# Altium integrated library TI Power Management Switching Regulator Charge Pump (Inductorless).IntLib: 239 symbols (part 2 of 14)
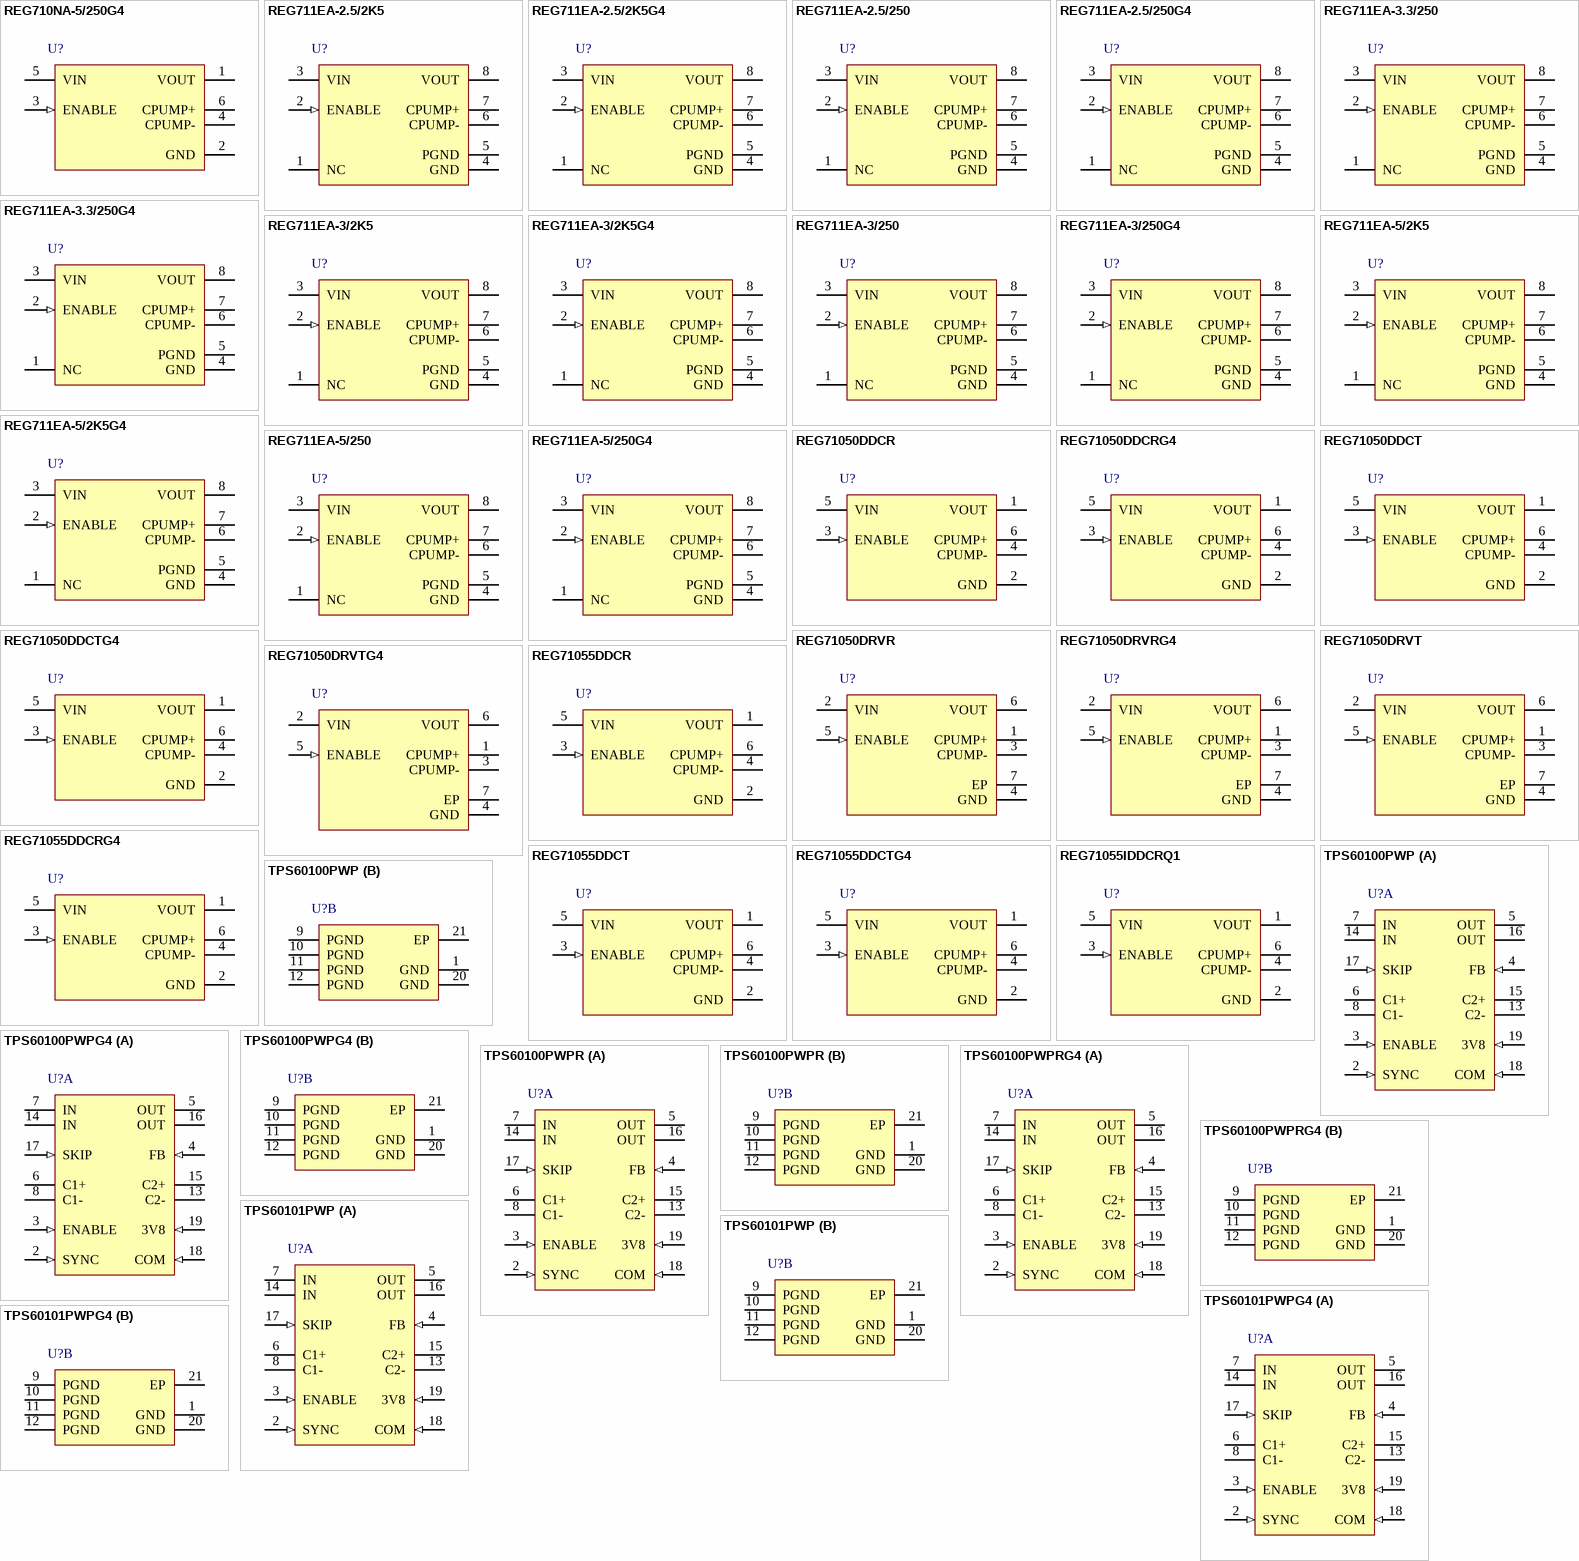
[diagram p8: symbols REG710NA-5/250G4 to TPS60101PWPG4]

## REG711EA-2.5/2K5
designator U?
2.5 V, Buck-Boost Charge Pump Regulator, 50 mA, 1.8 to 5.5 V Input, -55 to 125 degC, 8-pin SOP (DGK8), Green (RoHS & no Sb/Br); Manufacturer: Texas Instruments; PartNumber: REG711EA-2.5/2K5; Efficiency(Typ)(%): 90; Iout(Max)(A): 0.05; Iq(Typ)(mA): 0.06; Preset Vout(V): 2.5; Switching Frequency(Max)(kHz): 1000; Topology: Buck/Boost; Vin(Max)(V): 5.5; Vin(Min)(V): 1.8; Vout(Max)(V): 2.62; Vout(Min)(V): 2.38; DatasheetVersion: SBVS027A; PackageVersion: 4073329/E; PackageReference: DGK8; PackageDescription: 8-Pin Thin Small Outline Package 3 x 3 mm Body ,0.65 mm Pitch; Supplier 1: Digi-Key; Supplier Part Number 1: REG711EA2.52K5TR-ND; Supplier 2: Digi-Key; Supplier Part Number 2: REG711EA2.52K5CT-ND; Supplier 3: Digi-Key; Supplier Part Number 3: REG711EA2.52K5DKR-ND; Supplier 4: Newark; Supplier Part Number 4: 75C7606; Supplier 5: Mouser; Supplier Part Number 5: 595-REG711EA-2.5/2K5; Eco-Plan: Green (RoHS & no Sb/Br); Mounting Technology: Surface Mount; Code_JEDEC: MO-187; ComponentLink1Description: Manufacturer URL; ComponentLink1URL: http://www.ti.com/; ComponentLink2Description: Datasheet; ComponentLink2URL: http://www.ti.com/general/docs/lit/getliterature.tsp?genericPartNumber=REG711-25&fileType=pdf; ComponentLink3Description: Package Specification; ComponentLink3URL: http://www.ti.com/litv/pdf/mpds028d
footprint TI-DGK8_N (SOP, 8-Leads, Body 3x3mm, Pitch 0.65mm, IPC Medium Density)
footprint TI-DGK8_L (SOP, 8-Leads, Body 3x3mm, Pitch 0.65mm, IPC High Density)
footprint TI-DGK8_M (SOP, 8-Leads, Body 3x3mm, Pitch 0.65mm, IPC Low Density)
pins: 1 NC, 2 ENABLE (in), 3 VIN (power), 4 GND (power), 5 PGND (power), 6 CPUMP-, 7 CPUMP+, 8 VOUT (power)

## REG711EA-2.5/2K5G4
designator U?
2.5 V, Buck-Boost Charge Pump Regulator, 50 mA, 1.8 to 5.5 V Input, -55 to 125 degC, 8-pin SOP (DGK8), Green (RoHS & no Sb/Br); Manufacturer: Texas Instruments; PartNumber: REG711EA-2.5/2K5G4; Efficiency(Typ)(%): 90; Iout(Max)(A): 0.05; Iq(Typ)(mA): 0.06; Preset Vout(V): 2.5; Switching Frequency(Max)(kHz): 1000; Topology: Buck/Boost; Vin(Max)(V): 5.5; Vin(Min)(V): 1.8; Vout(Max)(V): 2.62; Vout(Min)(V): 2.38; DatasheetVersion: SBVS027A; PackageVersion: 4073329/E; PackageReference: DGK8; PackageDescription: 8-Pin Thin Small Outline Package 3 x 3 mm Body ,0.65 mm Pitch; Supplier 1: Digi-Key; Supplier Part Number 1: REG711EA-2.5/2K5G4-ND; Supplier 2: Newark; Supplier Part Number 2: 60M1723; Supplier 3: Mouser; Supplier Part Number 3: 595-REG711EA2.52K5G4; Eco-Plan: Green (RoHS & no Sb/Br); Mounting Technology: Surface Mount; Code_JEDEC: MO-187; ComponentLink1Description: Manufacturer URL; ComponentLink1URL: http://www.ti.com/; ComponentLink2Description: Datasheet; ComponentLink2URL: http://www.ti.com/general/docs/lit/getliterature.tsp?genericPartNumber=REG711-25&fileType=pdf; ComponentLink3Description: Package Specification; ComponentLink3URL: http://www.ti.com/litv/pdf/mpds028d
footprint TI-DGK8_N (SOP, 8-Leads, Body 3x3mm, Pitch 0.65mm, IPC Medium Density)
footprint TI-DGK8_L (SOP, 8-Leads, Body 3x3mm, Pitch 0.65mm, IPC High Density)
footprint TI-DGK8_M (SOP, 8-Leads, Body 3x3mm, Pitch 0.65mm, IPC Low Density)
pins: 1 NC, 2 ENABLE (in), 3 VIN (power), 4 GND (power), 5 PGND (power), 6 CPUMP-, 7 CPUMP+, 8 VOUT (power)

## REG711EA-2.5/250
designator U?
2.5 V, Buck-Boost Charge Pump Regulator, 50 mA, 1.8 to 5.5 V Input, -55 to 125 degC, 8-pin SOP (DGK8), Green (RoHS & no Sb/Br); Manufacturer: Texas Instruments; PartNumber: REG711EA-2.5/250; Efficiency(Typ)(%): 90; Iout(Max)(A): 0.05; Iq(Typ)(mA): 0.06; Preset Vout(V): 2.5; Switching Frequency(Max)(kHz): 1000; Topology: Buck/Boost; Vin(Max)(V): 5.5; Vin(Min)(V): 1.8; Vout(Max)(V): 2.62; Vout(Min)(V): 2.38; DatasheetVersion: SBVS027A; PackageVersion: 4073329/E; PackageReference: DGK8; PackageDescription: 8-Pin Thin Small Outline Package 3 x 3 mm Body ,0.65 mm Pitch; Supplier 1: Digi-Key; Supplier Part Number 1: 296-32219-2-ND; Supplier 2: Digi-Key; Supplier Part Number 2: 296-32219-1-ND; Supplier 3: Digi-Key; Supplier Part Number 3: 296-32219-6-ND; Supplier 4: Farnell; Supplier Part Number 4: 1471216RL; Supplier 5: Farnell; Supplier Part Number 5: 1471216; Supplier 6: Farnell; Supplier Part Number 6: 1535406; Supplier 7: Newark; Supplier Part Number 7: 75C7607; Supplier 8: Mouser; Supplier Part Number 8: 595-REG711EA-2.5/250; Eco-Plan: Green (RoHS & no Sb/Br); Mounting Technology: Surface Mount; Code_JEDEC: MO-187; ComponentLink1Description: Manufacturer URL; ComponentLink1URL: http://www.ti.com/; ComponentLink2Description: Datasheet; ComponentLink2URL: http://www.ti.com/general/docs/lit/getliterature.tsp?genericPartNumber=REG711-25&fileType=pdf; ComponentLink3Description: Package Specification; ComponentLink3URL: http://www.ti.com/litv/pdf/mpds028d
footprint TI-DGK8_N (SOP, 8-Leads, Body 3x3mm, Pitch 0.65mm, IPC Medium Density)
footprint TI-DGK8_L (SOP, 8-Leads, Body 3x3mm, Pitch 0.65mm, IPC High Density)
footprint TI-DGK8_M (SOP, 8-Leads, Body 3x3mm, Pitch 0.65mm, IPC Low Density)
pins: 1 NC, 2 ENABLE (in), 3 VIN (power), 4 GND (power), 5 PGND (power), 6 CPUMP-, 7 CPUMP+, 8 VOUT (power)

## REG711EA-2.5/250G4
designator U?
2.5 V, Buck-Boost Charge Pump Regulator, 50 mA, 1.8 to 5.5 V Input, -55 to 125 degC, 8-pin SOP (DGK8), Green (RoHS & no Sb/Br); Manufacturer: Texas Instruments; PartNumber: REG711EA-2.5/250G4; Efficiency(Typ)(%): 90; Iout(Max)(A): 0.05; Iq(Typ)(mA): 0.06; Preset Vout(V): 2.5; Switching Frequency(Max)(kHz): 1000; Topology: Buck/Boost; Vin(Max)(V): 5.5; Vin(Min)(V): 1.8; Vout(Max)(V): 2.62; Vout(Min)(V): 2.38; DatasheetVersion: SBVS027A; PackageVersion: 4073329/E; PackageReference: DGK8; PackageDescription: 8-Pin Thin Small Outline Package 3 x 3 mm Body ,0.65 mm Pitch; Supplier 1: Digi-Key; Supplier Part Number 1: REG711EA-2.5/250G4-ND; Supplier 2: Newark; Supplier Part Number 2: 60M1724; Supplier 3: Mouser; Supplier Part Number 3: 595-REG711EA2.5250G4; Eco-Plan: Green (RoHS & no Sb/Br); Mounting Technology: Surface Mount; Code_JEDEC: MO-187; ComponentLink1Description: Manufacturer URL; ComponentLink1URL: http://www.ti.com/; ComponentLink2Description: Datasheet; ComponentLink2URL: http://www.ti.com/general/docs/lit/getliterature.tsp?genericPartNumber=REG711-25&fileType=pdf; ComponentLink3Description: Package Specification; ComponentLink3URL: http://www.ti.com/litv/pdf/mpds028d
footprint TI-DGK8_N (SOP, 8-Leads, Body 3x3mm, Pitch 0.65mm, IPC Medium Density)
footprint TI-DGK8_L (SOP, 8-Leads, Body 3x3mm, Pitch 0.65mm, IPC High Density)
footprint TI-DGK8_M (SOP, 8-Leads, Body 3x3mm, Pitch 0.65mm, IPC Low Density)
pins: 1 NC, 2 ENABLE (in), 3 VIN (power), 4 GND (power), 5 PGND (power), 6 CPUMP-, 7 CPUMP+, 8 VOUT (power)

## REG711EA-3.3/250
designator U?
3.3 V, Buck-Boost Charge Pump Regulator, 50 mA, 1.8 to 5.5 V Input, -55 to 125 degC, 8-pin SOP (DGK8), Green (RoHS & no Sb/Br); Manufacturer: Texas Instruments; PartNumber: REG711EA-3.3/250; Efficiency(Typ)(%): 90; Iout(Max)(A): 0.05; Iq(Typ)(mA): 0.06; Preset Vout(V): 3.3; Switching Frequency(Max)(kHz): 1000; Topology: Buck/Boost; Vin(Max)(V): 5.5; Vin(Min)(V): 1.8; Vout(Max)(V): 3.46; Vout(Min)(V): 3.14; DatasheetVersion: SBVS027A; PackageVersion: 4073329/E; PackageReference: DGK8; PackageDescription: 8-Pin Thin Small Outline Package 3 x 3 mm Body ,0.65 mm Pitch; Supplier 1: Digi-Key; Supplier Part Number 1: REG711EA3.3250TR-ND; Supplier 2: Digi-Key; Supplier Part Number 2: REG711EA3.3250CT-ND; Supplier 3: Digi-Key; Supplier Part Number 3: REG711EA3.3250DKR-ND; Supplier 4: Farnell; Supplier Part Number 4: 1471217; Supplier 5: Farnell; Supplier Part Number 5: 1471217RL; Supplier 6: Farnell; Supplier Part Number 6: 1535408; Supplier 7: Newark; Supplier Part Number 7: 75C7611; Supplier 8: Newark; Supplier Part Number 8: 61M8519; Supplier 9: Mouser; Supplier Part Number 9: 595-REG711EA-3.3/250; Eco-Plan: Green (RoHS & no Sb/Br); Mounting Technology: Surface Mount; Code_JEDEC: MO-187; ComponentLink1Description: Manufacturer URL; ComponentLink1URL: http://www.ti.com/; ComponentLink2Description: Datasheet; ComponentLink2URL: http://www.ti.com/general/docs/lit/getliterature.tsp?genericPartNumber=REG711-33&fileType=pdf; ComponentLink3Description: Package Specification; ComponentLink3URL: http://www.ti.com/litv/pdf/mpds028d
footprint TI-DGK8_N (SOP, 8-Leads, Body 3x3mm, Pitch 0.65mm, IPC Medium Density)
footprint TI-DGK8_L (SOP, 8-Leads, Body 3x3mm, Pitch 0.65mm, IPC High Density)
footprint TI-DGK8_M (SOP, 8-Leads, Body 3x3mm, Pitch 0.65mm, IPC Low Density)
pins: 1 NC, 2 ENABLE (in), 3 VIN (power), 4 GND (power), 5 PGND (power), 6 CPUMP-, 7 CPUMP+, 8 VOUT (power)

## REG711EA-3.3/250G4
designator U?
3.3 V, Buck-Boost Charge Pump Regulator, 50 mA, 1.8 to 5.5 V Input, -55 to 125 degC, 8-pin SOP (DGK8), Green (RoHS & no Sb/Br); Manufacturer: Texas Instruments; PartNumber: REG711EA-3.3/250G4; Efficiency(Typ)(%): 90; Iout(Max)(A): 0.05; Iq(Typ)(mA): 0.06; Preset Vout(V): 3.3; Switching Frequency(Max)(kHz): 1000; Topology: Buck/Boost; Vin(Max)(V): 5.5; Vin(Min)(V): 1.8; Vout(Max)(V): 3.46; Vout(Min)(V): 3.14; DatasheetVersion: SBVS027A; PackageVersion: 4073329/E; PackageReference: DGK8; PackageDescription: 8-Pin Thin Small Outline Package 3 x 3 mm Body ,0.65 mm Pitch; Supplier 1: Digi-Key; Supplier Part Number 1: REG711EA-3.3/250G4-ND; Supplier 2: Newark; Supplier Part Number 2: 33M9738; Supplier 3: Mouser; Supplier Part Number 3: 595-REG711EA3.3250G4; Eco-Plan: Green (RoHS & no Sb/Br); Mounting Technology: Surface Mount; Code_JEDEC: MO-187; ComponentLink1Description: Manufacturer URL; ComponentLink1URL: http://www.ti.com/; ComponentLink2Description: Datasheet; ComponentLink2URL: http://www.ti.com/general/docs/lit/getliterature.tsp?genericPartNumber=REG711-33&fileType=pdf; ComponentLink3Description: Package Specification; ComponentLink3URL: http://www.ti.com/litv/pdf/mpds028d
footprint TI-DGK8_N (SOP, 8-Leads, Body 3x3mm, Pitch 0.65mm, IPC Medium Density)
footprint TI-DGK8_L (SOP, 8-Leads, Body 3x3mm, Pitch 0.65mm, IPC High Density)
footprint TI-DGK8_M (SOP, 8-Leads, Body 3x3mm, Pitch 0.65mm, IPC Low Density)
pins: 1 NC, 2 ENABLE (in), 3 VIN (power), 4 GND (power), 5 PGND (power), 6 CPUMP-, 7 CPUMP+, 8 VOUT (power)

## REG711EA-3/2K5
designator U?
3 V, Buck-Boost Charge Pump Regulator, 50 mA, 1.8 to 5.5 V Input, -55 to 125 degC, 8-pin SOP (DGK8), Green (RoHS & no Sb/Br); Manufacturer: Texas Instruments; PartNumber: REG711EA-3/2K5; Efficiency(Typ)(%): 90; Iout(Max)(A): 0.05; Iq(Typ)(mA): 0.06; Preset Vout(V): 3; Switching Frequency(Max)(kHz): 1000; Topology: Buck/Boost; Vin(Max)(V): 5.5; Vin(Min)(V): 1.8; Vout(Max)(V): 3.15; Vout(Min)(V): 2.85; DatasheetVersion: SBVS027A; PackageVersion: 4073329/E; PackageReference: DGK8; PackageDescription: 8-Pin Thin Small Outline Package 3 x 3 mm Body ,0.65 mm Pitch; Supplier 1: Digi-Key; Supplier Part Number 1: REG711EA-3/2K5TR-ND; Supplier 2: Digi-Key; Supplier Part Number 2: REG711EA-3/2K5CT-ND; Supplier 3: Digi-Key; Supplier Part Number 3: REG711EA-3/2K5DKR-ND; Supplier 4: Newark; Supplier Part Number 4: 75C7612; Supplier 5: Mouser; Supplier Part Number 5: 595-REG711EA-3/2K5; Eco-Plan: Green (RoHS & no Sb/Br); Mounting Technology: Surface Mount; Code_JEDEC: MO-187; ComponentLink1Description: Manufacturer URL; ComponentLink1URL: http://www.ti.com/; ComponentLink2Description: Datasheet; ComponentLink2URL: http://www.ti.com/general/docs/lit/getliterature.tsp?genericPartNumber=REG711-3&fileType=pdf; ComponentLink3Description: Package Specification; ComponentLink3URL: http://www.ti.com/litv/pdf/mpds028d
footprint TI-DGK8_N (SOP, 8-Leads, Body 3x3mm, Pitch 0.65mm, IPC Medium Density)
footprint TI-DGK8_L (SOP, 8-Leads, Body 3x3mm, Pitch 0.65mm, IPC High Density)
footprint TI-DGK8_M (SOP, 8-Leads, Body 3x3mm, Pitch 0.65mm, IPC Low Density)
pins: 1 NC, 2 ENABLE (in), 3 VIN (power), 4 GND (power), 5 PGND (power), 6 CPUMP-, 7 CPUMP+, 8 VOUT (power)

## REG711EA-3/2K5G4
designator U?
3 V, Buck-Boost Charge Pump Regulator, 50 mA, 1.8 to 5.5 V Input, -55 to 125 degC, 8-pin SOP (DGK8), Green (RoHS & no Sb/Br); Manufacturer: Texas Instruments; PartNumber: REG711EA-3/2K5G4; Efficiency(Typ)(%): 90; Iout(Max)(A): 0.05; Iq(Typ)(mA): 0.06; Preset Vout(V): 3; Switching Frequency(Max)(kHz): 1000; Topology: Buck/Boost; Vin(Max)(V): 5.5; Vin(Min)(V): 1.8; Vout(Max)(V): 3.15; Vout(Min)(V): 2.85; DatasheetVersion: SBVS027A; PackageVersion: 4073329/E; PackageReference: DGK8; PackageDescription: 8-Pin Thin Small Outline Package 3 x 3 mm Body ,0.65 mm Pitch; Supplier 1: Digi-Key; Supplier Part Number 1: REG711EA-3/2K5G4-ND; Supplier 2: Mouser; Supplier Part Number 2: 595-REG711EA-3/2K5G4; Eco-Plan: Green (RoHS & no Sb/Br); Mounting Technology: Surface Mount; Code_JEDEC: MO-187; ComponentLink1Description: Manufacturer URL; ComponentLink1URL: http://www.ti.com/; ComponentLink2Description: Datasheet; ComponentLink2URL: http://www.ti.com/general/docs/lit/getliterature.tsp?genericPartNumber=REG711-3&fileType=pdf; ComponentLink3Description: Package Specification; ComponentLink3URL: http://www.ti.com/litv/pdf/mpds028d
footprint TI-DGK8_N (SOP, 8-Leads, Body 3x3mm, Pitch 0.65mm, IPC Medium Density)
footprint TI-DGK8_L (SOP, 8-Leads, Body 3x3mm, Pitch 0.65mm, IPC High Density)
footprint TI-DGK8_M (SOP, 8-Leads, Body 3x3mm, Pitch 0.65mm, IPC Low Density)
pins: 1 NC, 2 ENABLE (in), 3 VIN (power), 4 GND (power), 5 PGND (power), 6 CPUMP-, 7 CPUMP+, 8 VOUT (power)

## REG711EA-3/250
designator U?
3 V, Buck-Boost Charge Pump Regulator, 50 mA, 1.8 to 5.5 V Input, -55 to 125 degC, 8-pin SOP (DGK8), Green (RoHS & no Sb/Br); Manufacturer: Texas Instruments; PartNumber: REG711EA-3/250; Efficiency(Typ)(%): 90; Iout(Max)(A): 0.05; Iq(Typ)(mA): 0.06; Preset Vout(V): 3; Switching Frequency(Max)(kHz): 1000; Topology: Buck/Boost; Vin(Max)(V): 5.5; Vin(Min)(V): 1.8; Vout(Max)(V): 3.15; Vout(Min)(V): 2.85; DatasheetVersion: SBVS027A; PackageVersion: 4073329/E; PackageReference: DGK8; PackageDescription: 8-Pin Thin Small Outline Package 3 x 3 mm Body ,0.65 mm Pitch; Supplier 1: Digi-Key; Supplier Part Number 1: 296-32220-2-ND; Supplier 2: Digi-Key; Supplier Part Number 2: 296-32220-1-ND; Supplier 3: Digi-Key; Supplier Part Number 3: 296-32220-6-ND; Supplier 4: Newark; Supplier Part Number 4: 75C7613; Supplier 5: Mouser; Supplier Part Number 5: 595-REG711EA-3/250; Eco-Plan: Green (RoHS & no Sb/Br); Mounting Technology: Surface Mount; Code_JEDEC: MO-187; ComponentLink1Description: Manufacturer URL; ComponentLink1URL: http://www.ti.com/; ComponentLink2Description: Datasheet; ComponentLink2URL: http://www.ti.com/general/docs/lit/getliterature.tsp?genericPartNumber=REG711-3&fileType=pdf; ComponentLink3Description: Package Specification; ComponentLink3URL: http://www.ti.com/litv/pdf/mpds028d
footprint TI-DGK8_N (SOP, 8-Leads, Body 3x3mm, Pitch 0.65mm, IPC Medium Density)
footprint TI-DGK8_L (SOP, 8-Leads, Body 3x3mm, Pitch 0.65mm, IPC High Density)
footprint TI-DGK8_M (SOP, 8-Leads, Body 3x3mm, Pitch 0.65mm, IPC Low Density)
pins: 1 NC, 2 ENABLE (in), 3 VIN (power), 4 GND (power), 5 PGND (power), 6 CPUMP-, 7 CPUMP+, 8 VOUT (power)

## REG711EA-3/250G4
designator U?
3 V, Buck-Boost Charge Pump Regulator, 50 mA, 1.8 to 5.5 V Input, -55 to 125 degC, 8-pin SOP (DGK8), Green (RoHS & no Sb/Br); Manufacturer: Texas Instruments; PartNumber: REG711EA-3/250G4; Efficiency(Typ)(%): 90; Iout(Max)(A): 0.05; Iq(Typ)(mA): 0.06; Preset Vout(V): 3; Switching Frequency(Max)(kHz): 1000; Topology: Buck/Boost; Vin(Max)(V): 5.5; Vin(Min)(V): 1.8; Vout(Max)(V): 3.15; Vout(Min)(V): 2.85; DatasheetVersion: SBVS027A; PackageVersion: 4073329/E; PackageReference: DGK8; PackageDescription: 8-Pin Thin Small Outline Package 3 x 3 mm Body ,0.65 mm Pitch; Supplier 1: Digi-Key; Supplier Part Number 1: REG711EA-3/250G4-ND; Supplier 2: Mouser; Supplier Part Number 2: 595-REG711EA-3/250G4; Eco-Plan: Green (RoHS & no Sb/Br); Mounting Technology: Surface Mount; Code_JEDEC: MO-187; ComponentLink1Description: Manufacturer URL; ComponentLink1URL: http://www.ti.com/; ComponentLink2Description: Datasheet; ComponentLink2URL: http://www.ti.com/general/docs/lit/getliterature.tsp?genericPartNumber=REG711-3&fileType=pdf; ComponentLink3Description: Package Specification; ComponentLink3URL: http://www.ti.com/litv/pdf/mpds028d
footprint TI-DGK8_N (SOP, 8-Leads, Body 3x3mm, Pitch 0.65mm, IPC Medium Density)
footprint TI-DGK8_L (SOP, 8-Leads, Body 3x3mm, Pitch 0.65mm, IPC High Density)
footprint TI-DGK8_M (SOP, 8-Leads, Body 3x3mm, Pitch 0.65mm, IPC Low Density)
pins: 1 NC, 2 ENABLE (in), 3 VIN (power), 4 GND (power), 5 PGND (power), 6 CPUMP-, 7 CPUMP+, 8 VOUT (power)

## REG711EA-5/2K5
designator U?
5 V, Buck-Boost Charge Pump Regulator, 50 mA, 2.7 to 5.5 V Input, -55 to 125 degC, 8-pin SOP (DGK8), Green (RoHS & no Sb/Br); Manufacturer: Texas Instruments; PartNumber: REG711EA-5/2K5; Efficiency(Typ)(%): 90; Iout(Max)(A): 0.05; Iq(Typ)(mA): 0.06; Preset Vout(V): 5; Switching Frequency(Max)(kHz): 1000; Topology: Buck/Boost; Vin(Max)(V): 5.5; Vin(Min)(V): 2.7; Vout(Max)(V): 5.25; Vout(Min)(V): 4.75; DatasheetVersion: SBVS027A; PackageVersion: 4073329/E; PackageReference: DGK8; PackageDescription: 8-Pin Thin Small Outline Package 3 x 3 mm Body ,0.65 mm Pitch; Supplier 1: Digi-Key; Supplier Part Number 1: 296-35577-2-ND; Supplier 2: Digi-Key; Supplier Part Number 2: 296-35577-1-ND; Supplier 3: Digi-Key; Supplier Part Number 3: 296-35577-6-ND; Supplier 4: Newark; Supplier Part Number 4: 75C7614; Supplier 5: Mouser; Supplier Part Number 5: 595-REG711EA-5/2K5; Eco-Plan: Green (RoHS & no Sb/Br); Mounting Technology: Surface Mount; Code_JEDEC: MO-187; ComponentLink1Description: Manufacturer URL; ComponentLink1URL: http://www.ti.com/; ComponentLink2Description: Datasheet; ComponentLink2URL: http://www.ti.com/general/docs/lit/getliterature.tsp?genericPartNumber=REG711-5&fileType=pdf; ComponentLink3Description: Package Specification; ComponentLink3URL: http://www.ti.com/litv/pdf/mpds028d
footprint TI-DGK8_N (SOP, 8-Leads, Body 3x3mm, Pitch 0.65mm, IPC Medium Density)
footprint TI-DGK8_L (SOP, 8-Leads, Body 3x3mm, Pitch 0.65mm, IPC High Density)
footprint TI-DGK8_M (SOP, 8-Leads, Body 3x3mm, Pitch 0.65mm, IPC Low Density)
pins: 1 NC, 2 ENABLE (in), 3 VIN (power), 4 GND (power), 5 PGND (power), 6 CPUMP-, 7 CPUMP+, 8 VOUT (power)

## REG711EA-5/2K5G4
designator U?
5 V, Buck-Boost Charge Pump Regulator, 50 mA, 2.7 to 5.5 V Input, -55 to 125 degC, 8-pin SOP (DGK8), Green (RoHS & no Sb/Br); Manufacturer: Texas Instruments; PartNumber: REG711EA-5/2K5G4; Efficiency(Typ)(%): 90; Iout(Max)(A): 0.05; Iq(Typ)(mA): 0.06; Preset Vout(V): 5; Switching Frequency(Max)(kHz): 1000; Topology: Buck/Boost; Vin(Max)(V): 5.5; Vin(Min)(V): 2.7; Vout(Max)(V): 5.25; Vout(Min)(V): 4.75; DatasheetVersion: SBVS027A; PackageVersion: 4073329/E; PackageReference: DGK8; PackageDescription: 8-Pin Thin Small Outline Package 3 x 3 mm Body ,0.65 mm Pitch; Supplier 1: Digi-Key; Supplier Part Number 1: REG711EA-5/2K5G4-ND; Supplier 2: Newark; Supplier Part Number 2: 24K4791; Supplier 3: Mouser; Supplier Part Number 3: 595-REG711EA-5/2K5G4; Eco-Plan: Green (RoHS & no Sb/Br); Mounting Technology: Surface Mount; Code_JEDEC: MO-187; ComponentLink1Description: Manufacturer URL; ComponentLink1URL: http://www.ti.com/; ComponentLink2Description: Datasheet; ComponentLink2URL: http://www.ti.com/general/docs/lit/getliterature.tsp?genericPartNumber=REG711-5&fileType=pdf; ComponentLink3Description: Package Specification; ComponentLink3URL: http://www.ti.com/litv/pdf/mpds028d
footprint TI-DGK8_N (SOP, 8-Leads, Body 3x3mm, Pitch 0.65mm, IPC Medium Density)
footprint TI-DGK8_L (SOP, 8-Leads, Body 3x3mm, Pitch 0.65mm, IPC High Density)
footprint TI-DGK8_M (SOP, 8-Leads, Body 3x3mm, Pitch 0.65mm, IPC Low Density)
pins: 1 NC, 2 ENABLE (in), 3 VIN (power), 4 GND (power), 5 PGND (power), 6 CPUMP-, 7 CPUMP+, 8 VOUT (power)

## REG711EA-5/250
designator U?
5 V, Buck-Boost Charge Pump Regulator, 50 mA, 2.7 to 5.5 V Input, -55 to 125 degC, 8-pin SOP (DGK8), Green (RoHS & no Sb/Br); Manufacturer: Texas Instruments; PartNumber: REG711EA-5/250; Efficiency(Typ)(%): 90; Iout(Max)(A): 0.05; Iq(Typ)(mA): 0.06; Preset Vout(V): 5; Switching Frequency(Max)(kHz): 1000; Topology: Buck/Boost; Vin(Max)(V): 5.5; Vin(Min)(V): 2.7; Vout(Max)(V): 5.25; Vout(Min)(V): 4.75; DatasheetVersion: SBVS027A; PackageVersion: 4073329/E; PackageReference: DGK8; PackageDescription: 8-Pin Thin Small Outline Package 3 x 3 mm Body ,0.65 mm Pitch; Supplier 1: Digi-Key; Supplier Part Number 1: 296-32221-2-ND; Supplier 2: Digi-Key; Supplier Part Number 2: 296-32221-1-ND; Supplier 3: Digi-Key; Supplier Part Number 3: 296-32221-6-ND; Supplier 4: Farnell; Supplier Part Number 4: 1535409; Supplier 5: Newark; Supplier Part Number 5: 75C7615; Supplier 6: Mouser; Supplier Part Number 6: 595-REG711EA-5/250; Eco-Plan: Green (RoHS & no Sb/Br); Mounting Technology: Surface Mount; Code_JEDEC: MO-187; ComponentLink1Description: Manufacturer URL; ComponentLink1URL: http://www.ti.com/; ComponentLink2Description: Datasheet; ComponentLink2URL: http://www.ti.com/general/docs/lit/getliterature.tsp?genericPartNumber=REG711-5&fileType=pdf; ComponentLink3Description: Package Specification; ComponentLink3URL: http://www.ti.com/litv/pdf/mpds028d
footprint TI-DGK8_N (SOP, 8-Leads, Body 3x3mm, Pitch 0.65mm, IPC Medium Density)
footprint TI-DGK8_L (SOP, 8-Leads, Body 3x3mm, Pitch 0.65mm, IPC High Density)
footprint TI-DGK8_M (SOP, 8-Leads, Body 3x3mm, Pitch 0.65mm, IPC Low Density)
pins: 1 NC, 2 ENABLE (in), 3 VIN (power), 4 GND (power), 5 PGND (power), 6 CPUMP-, 7 CPUMP+, 8 VOUT (power)

## REG711EA-5/250G4
designator U?
5 V, Buck-Boost Charge Pump Regulator, 50 mA, 2.7 to 5.5 V Input, -55 to 125 degC, 8-pin SOP (DGK8), Green (RoHS & no Sb/Br); Manufacturer: Texas Instruments; PartNumber: REG711EA-5/250G4; Efficiency(Typ)(%): 90; Iout(Max)(A): 0.05; Iq(Typ)(mA): 0.06; Preset Vout(V): 5; Switching Frequency(Max)(kHz): 1000; Topology: Buck/Boost; Vin(Max)(V): 5.5; Vin(Min)(V): 2.7; Vout(Max)(V): 5.25; Vout(Min)(V): 4.75; DatasheetVersion: SBVS027A; PackageVersion: 4073329/E; PackageReference: DGK8; PackageDescription: 8-Pin Thin Small Outline Package 3 x 3 mm Body ,0.65 mm Pitch; Supplier 1: Digi-Key; Supplier Part Number 1: REG711EA-5/250G4-ND; Supplier 2: Newark; Supplier Part Number 2: 80K2821; Supplier 3: Mouser; Supplier Part Number 3: 595-REG711EA-5/250G4; Eco-Plan: Green (RoHS & no Sb/Br); Mounting Technology: Surface Mount; Code_JEDEC: MO-187; ComponentLink1Description: Manufacturer URL; ComponentLink1URL: http://www.ti.com/; ComponentLink2Description: Datasheet; ComponentLink2URL: http://www.ti.com/general/docs/lit/getliterature.tsp?genericPartNumber=REG711-5&fileType=pdf; ComponentLink3Description: Package Specification; ComponentLink3URL: http://www.ti.com/litv/pdf/mpds028d
footprint TI-DGK8_N (SOP, 8-Leads, Body 3x3mm, Pitch 0.65mm, IPC Medium Density)
footprint TI-DGK8_L (SOP, 8-Leads, Body 3x3mm, Pitch 0.65mm, IPC High Density)
footprint TI-DGK8_M (SOP, 8-Leads, Body 3x3mm, Pitch 0.65mm, IPC Low Density)
pins: 1 NC, 2 ENABLE (in), 3 VIN (power), 4 GND (power), 5 PGND (power), 6 CPUMP-, 7 CPUMP+, 8 VOUT (power)

## REG71050DDCR
designator U?
5 V, Buck / Boost Charge Pump, 60 mA, 2.7 to 5.5 V Input, -40 to 85 degC, 6-pin SOT23 (DDC6), Green (RoHS & no Sb/Br); Manufacturer: Texas Instruments; PartNumber: REG71050DDCR; Efficiency(Typ)(%): 90; Iout(Max)(A): 0.06; Iq(Typ)(mA): 0.065; Preset Vout(V): 5; Switching Frequency(Max)(kHz): 1000; Vin(Max)(V): 5.5; Vin(Min)(V): 2.7; DatasheetVersion: SBAS221G; PackageVersion: 4204403-3/E; PackageReference: DDC6; PackageDescription: 6-Pin Plastic Small Outline, Body 2.9 x 1.6 mm, 0.95 mm Pitch; Supplier 1: Digi-Key; Supplier Part Number 1: REG71050DDCR-ND; Supplier 2: Newark; Supplier Part Number 2: 90H3380; Supplier 3: Mouser; Supplier Part Number 3: 595-REG71050DDCR; Eco-Plan: Green (RoHS & no Sb/Br); Topology: Buck/Boost; Vout(Max)(V): 5; Vout(Min)(V): 5; Mounting Technology: Surface Mount; Code_JEDEC: MO-193; ComponentLink1Description: Manufacturer URL; ComponentLink1URL: http://www.ti.com/; ComponentLink2Description: Datasheet; ComponentLink2URL: http://www.ti.com/general/docs/lit/getliterature.tsp?genericPartNumber=REG71050&fileType=pdf; ComponentLink3Description: Package Specification; ComponentLink3URL: http://www.ti.com/litv/pdf/mpds124d
footprint TI-DDC6_N (SOT23, 6-Leads, Body 2.9x1.6mm, Pitch 0.95mm, IPC Medium Density)
footprint TI-DDC6_L (SOT23, 6-Leads, Body 2.9x1.6mm, Pitch 0.95mm, IPC High Density)
footprint TI-DDC6_M (SOT23, 6-Leads, Body 2.9x1.6mm, Pitch 0.95mm, IPC Low Density)
pins: 1 VOUT (power), 2 GND (power), 3 ENABLE (in), 4 CPUMP-, 5 VIN (power), 6 CPUMP+

## REG71050DDCRG4
designator U?
5 V, Buck / Boost Charge Pump, 60 mA, 2.7 to 5.5 V Input, -40 to 85 degC, 6-pin SOT23 (DDC6), Green (RoHS & no Sb/Br); Manufacturer: Texas Instruments; PartNumber: REG71050DDCRG4; Efficiency(Typ)(%): 90; Iout(Max)(A): 0.06; Iq(Typ)(mA): 0.065; Preset Vout(V): 5; Switching Frequency(Max)(kHz): 1000; Vin(Max)(V): 5.5; Vin(Min)(V): 2.7; DatasheetVersion: SBAS221G; PackageVersion: 4204403-3/E; PackageReference: DDC6; PackageDescription: 6-Pin Plastic Small Outline, Body 2.9 x 1.6 mm, 0.95 mm Pitch; Supplier 1: Digi-Key; Supplier Part Number 1: REG71050DDCRG4-ND; Supplier 2: Newark; Supplier Part Number 2: 54K0237; Supplier 3: Mouser; Supplier Part Number 3: 595-REG71050DDCRG4; Eco-Plan: Green (RoHS & no Sb/Br); Topology: Buck/Boost; Vout(Max)(V): 5; Vout(Min)(V): 5; Mounting Technology: Surface Mount; Code_JEDEC: MO-193; ComponentLink1Description: Manufacturer URL; ComponentLink1URL: http://www.ti.com/; ComponentLink2Description: Datasheet; ComponentLink2URL: http://www.ti.com/general/docs/lit/getliterature.tsp?genericPartNumber=REG71050&fileType=pdf; ComponentLink3Description: Package Specification; ComponentLink3URL: http://www.ti.com/litv/pdf/mpds124d
footprint TI-DDC6_N (SOT23, 6-Leads, Body 2.9x1.6mm, Pitch 0.95mm, IPC Medium Density)
footprint TI-DDC6_L (SOT23, 6-Leads, Body 2.9x1.6mm, Pitch 0.95mm, IPC High Density)
footprint TI-DDC6_M (SOT23, 6-Leads, Body 2.9x1.6mm, Pitch 0.95mm, IPC Low Density)
pins: 1 VOUT (power), 2 GND (power), 3 ENABLE (in), 4 CPUMP-, 5 VIN (power), 6 CPUMP+

## REG71050DDCT
designator U?
5 V, Buck / Boost Charge Pump, 60 mA, 2.7 to 5.5 V Input, -40 to 85 degC, 6-pin SOT23 (DDC6), Green (RoHS & no Sb/Br); Manufacturer: Texas Instruments; PartNumber: REG71050DDCT; Efficiency(Typ)(%): 90; Iout(Max)(A): 0.06; Iq(Typ)(mA): 0.065; Preset Vout(V): 5; Switching Frequency(Max)(kHz): 1000; Vin(Max)(V): 5.5; Vin(Min)(V): 2.7; DatasheetVersion: SBAS221G; PackageVersion: 4204403-3/E; PackageReference: DDC6; PackageDescription: 6-Pin Plastic Small Outline, Body 2.9 x 1.6 mm, 0.95 mm Pitch; Supplier 1: Digi-Key; Supplier Part Number 1: 296-17420-2-ND; Supplier 2: Digi-Key; Supplier Part Number 2: 296-17420-1-ND; Supplier 3: Digi-Key; Supplier Part Number 3: 296-17420-6-ND; Supplier 4: Newark; Supplier Part Number 4: 90H3381; Supplier 5: Mouser; Supplier Part Number 5: 595-REG71050DDCT; Eco-Plan: Green (RoHS & no Sb/Br); Topology: Buck/Boost; Vout(Max)(V): 5; Vout(Min)(V): 5; Mounting Technology: Surface Mount; Code_JEDEC: MO-193; ComponentLink1Description: Manufacturer URL; ComponentLink1URL: http://www.ti.com/; ComponentLink2Description: Datasheet; ComponentLink2URL: http://www.ti.com/general/docs/lit/getliterature.tsp?genericPartNumber=REG71050&fileType=pdf; ComponentLink3Description: Package Specification; ComponentLink3URL: http://www.ti.com/litv/pdf/mpds124d
footprint TI-DDC6_N (SOT23, 6-Leads, Body 2.9x1.6mm, Pitch 0.95mm, IPC Medium Density)
footprint TI-DDC6_L (SOT23, 6-Leads, Body 2.9x1.6mm, Pitch 0.95mm, IPC High Density)
footprint TI-DDC6_M (SOT23, 6-Leads, Body 2.9x1.6mm, Pitch 0.95mm, IPC Low Density)
pins: 1 VOUT (power), 2 GND (power), 3 ENABLE (in), 4 CPUMP-, 5 VIN (power), 6 CPUMP+

## REG71050DDCTG4
designator U?
5 V, Buck / Boost Charge Pump, 60 mA, 2.7 to 5.5 V Input, -40 to 85 degC, 6-pin SOT23 (DDC6), Green (RoHS & no Sb/Br); Manufacturer: Texas Instruments; PartNumber: REG71050DDCTG4; Efficiency(Typ)(%): 90; Iout(Max)(A): 0.06; Iq(Typ)(mA): 0.065; Preset Vout(V): 5; Switching Frequency(Max)(kHz): 1000; Vin(Max)(V): 5.5; Vin(Min)(V): 2.7; DatasheetVersion: SBAS221G; PackageVersion: 4204403-3/E; PackageReference: DDC6; PackageDescription: 6-Pin Plastic Small Outline, Body 2.9 x 1.6 mm, 0.95 mm Pitch; Supplier 1: Digi-Key; Supplier Part Number 1: REG71050DDCTG4-ND; Supplier 2: Newark; Supplier Part Number 2: 99K4197; Supplier 3: Mouser; Supplier Part Number 3: 595-REG71050DDCTG4; Eco-Plan: Green (RoHS & no Sb/Br); Topology: Buck/Boost; Vout(Max)(V): 5; Vout(Min)(V): 5; Mounting Technology: Surface Mount; Code_JEDEC: MO-193; ComponentLink1Description: Manufacturer URL; ComponentLink1URL: http://www.ti.com/; ComponentLink2Description: Datasheet; ComponentLink2URL: http://www.ti.com/general/docs/lit/getliterature.tsp?genericPartNumber=REG71050&fileType=pdf; ComponentLink3Description: Package Specification; ComponentLink3URL: http://www.ti.com/litv/pdf/mpds124d
footprint TI-DDC6_N (SOT23, 6-Leads, Body 2.9x1.6mm, Pitch 0.95mm, IPC Medium Density)
footprint TI-DDC6_L (SOT23, 6-Leads, Body 2.9x1.6mm, Pitch 0.95mm, IPC High Density)
footprint TI-DDC6_M (SOT23, 6-Leads, Body 2.9x1.6mm, Pitch 0.95mm, IPC Low Density)
pins: 1 VOUT (power), 2 GND (power), 3 ENABLE (in), 4 CPUMP-, 5 VIN (power), 6 CPUMP+

## REG71050DRVR
designator U?
5 V, Buck / Boost Charge Pump, 60 mA, 2.7 to 5.5 V Input, -40 to 85 degC, 6-pin SON (DRV6), Green (RoHS & no Sb/Br); Manufacturer: Texas Instruments; PartNumber: REG71050DRVR; Efficiency(Typ)(%): 90; Iout(Max)(A): 0.06; Iq(Typ)(mA): 0.065; Preset Vout(V): 5; Switching Frequency(Max)(kHz): 1000; Vin(Max)(V): 5.5; Vin(Min)(V): 2.7; DatasheetVersion: SBAS221G; PackageVersion: 4206925/E; PackageReference: DRV6-1600X1000TP; PackageDescription: 6-Pin Plastic Small Outline No-Lead, Body 2 x 2 mm, Pitch 0.65 mm; Supplier 1: Digi-Key; Supplier Part Number 1: 296-23423-2-ND; Supplier 2: Digi-Key; Supplier Part Number 2: 296-23423-1-ND; Supplier 3: Digi-Key; Supplier Part Number 3: 296-23423-6-ND; Supplier 4: Newark; Supplier Part Number 4: 11N9664; Supplier 5: Mouser; Supplier Part Number 5: 595-REG71050DRVR; Eco-Plan: Green (RoHS & no Sb/Br); Topology: Buck/Boost; Vout(Max)(V): 5; Vout(Min)(V): 5; Mounting Technology: Surface Mount; ComponentLink1Description: Manufacturer URL; ComponentLink1URL: http://www.ti.com/; ComponentLink2Description: Datasheet; ComponentLink2URL: http://www.ti.com/general/docs/lit/getliterature.tsp?genericPartNumber=REG71050&fileType=pdf; ComponentLink3Description: Package Specification; ComponentLink3URL: http://www.ti.com/litv/pdf/mpds216d
footprint TI-DRV6-1600X1000TP_V (SON, 6-Leads, Body 2x2mm, Pitch 0.65mm, Thermal Pad 1X1.6mm)
pins: 1 CPUMP+, 2 VIN (power), 3 CPUMP-, 4 GND (power), 5 ENABLE (in), 6 VOUT (power), 7 EP

## REG71050DRVRG4
designator U?
5 V, Buck / Boost Charge Pump, 60 mA, 2.7 to 5.5 V Input, -40 to 85 degC, 6-pin SON (DRV6), Green (RoHS & no Sb/Br); Manufacturer: Texas Instruments; PartNumber: REG71050DRVRG4; Efficiency(Typ)(%): 90; Iout(Max)(A): 0.06; Iq(Typ)(mA): 0.065; Preset Vout(V): 5; Switching Frequency(Max)(kHz): 1000; Vin(Max)(V): 5.5; Vin(Min)(V): 2.7; DatasheetVersion: SBAS221G; PackageVersion: 4206925/E; PackageReference: DRV6-1600X1000TP; PackageDescription: 6-Pin Plastic Small Outline No-Lead, Body 2 x 2 mm, Pitch 0.65 mm; Supplier 1: Digi-Key; Supplier Part Number 1: REG71050DRVRG4-ND; Supplier 2: Newark; Supplier Part Number 2: 03P4799; Supplier 3: Mouser; Supplier Part Number 3: 595-REG71050DRVRG4; Eco-Plan: Green (RoHS & no Sb/Br); Topology: Buck/Boost; Vout(Max)(V): 5; Vout(Min)(V): 5; Mounting Technology: Surface Mount; ComponentLink1Description: Manufacturer URL; ComponentLink1URL: http://www.ti.com/; ComponentLink2Description: Datasheet; ComponentLink2URL: http://www.ti.com/general/docs/lit/getliterature.tsp?genericPartNumber=REG71050&fileType=pdf; ComponentLink3Description: Package Specification; ComponentLink3URL: http://www.ti.com/litv/pdf/mpds216d
footprint TI-DRV6-1600X1000TP_V (SON, 6-Leads, Body 2x2mm, Pitch 0.65mm, Thermal Pad 1X1.6mm)
pins: 1 CPUMP+, 2 VIN (power), 3 CPUMP-, 4 GND (power), 5 ENABLE (in), 6 VOUT (power), 7 EP

## REG71050DRVT
designator U?
5 V, Buck / Boost Charge Pump, 60 mA, 2.7 to 5.5 V Input, -40 to 85 degC, 6-pin SON (DRV6), Green (RoHS & no Sb/Br); Manufacturer: Texas Instruments; PartNumber: REG71050DRVT; Efficiency(Typ)(%): 90; Iout(Max)(A): 0.06; Iq(Typ)(mA): 0.065; Preset Vout(V): 5; Switching Frequency(Max)(kHz): 1000; Vin(Max)(V): 5.5; Vin(Min)(V): 2.7; DatasheetVersion: SBAS221G; PackageVersion: 4206925/E; PackageReference: DRV6-1600X1000TP; PackageDescription: 6-Pin Plastic Small Outline No-Lead, Body 2 x 2 mm, Pitch 0.65 mm; Supplier 1: Digi-Key; Supplier Part Number 1: 296-24144-2-ND; Supplier 2: Digi-Key; Supplier Part Number 2: 296-24144-1-ND; Supplier 3: Digi-Key; Supplier Part Number 3: 296-24144-6-ND; Supplier 4: Newark; Supplier Part Number 4: 11N9665; Supplier 5: Mouser; Supplier Part Number 5: 595-REG71050DRVT; Eco-Plan: Green (RoHS & no Sb/Br); Topology: Buck/Boost; Vout(Max)(V): 5; Vout(Min)(V): 5; Mounting Technology: Surface Mount; ComponentLink1Description: Manufacturer URL; ComponentLink1URL: http://www.ti.com/; ComponentLink2Description: Datasheet; ComponentLink2URL: http://www.ti.com/general/docs/lit/getliterature.tsp?genericPartNumber=REG71050&fileType=pdf; ComponentLink3Description: Package Specification; ComponentLink3URL: http://www.ti.com/litv/pdf/mpds216d
footprint TI-DRV6-1600X1000TP_V (SON, 6-Leads, Body 2x2mm, Pitch 0.65mm, Thermal Pad 1X1.6mm)
pins: 1 CPUMP+, 2 VIN (power), 3 CPUMP-, 4 GND (power), 5 ENABLE (in), 6 VOUT (power), 7 EP

## REG71050DRVTG4
designator U?
5 V, Buck / Boost Charge Pump, 60 mA, 2.7 to 5.5 V Input, -40 to 85 degC, 6-pin SON (DRV6), Green (RoHS & no Sb/Br); Manufacturer: Texas Instruments; PartNumber: REG71050DRVTG4; Efficiency(Typ)(%): 90; Iout(Max)(A): 0.06; Iq(Typ)(mA): 0.065; Preset Vout(V): 5; Switching Frequency(Max)(kHz): 1000; Vin(Max)(V): 5.5; Vin(Min)(V): 2.7; DatasheetVersion: SBAS221G; PackageVersion: 4206925/E; PackageReference: DRV6-1600X1000TP; PackageDescription: 6-Pin Plastic Small Outline No-Lead, Body 2 x 2 mm, Pitch 0.65 mm; Supplier 1: Digi-Key; Supplier Part Number 1: REG71050DRVTG4-ND; Supplier 2: Mouser; Supplier Part Number 2: 595-REG71050DRVTG4; Eco-Plan: Green (RoHS & no Sb/Br); Topology: Buck/Boost; Vout(Max)(V): 5; Vout(Min)(V): 5; Mounting Technology: Surface Mount; ComponentLink1Description: Manufacturer URL; ComponentLink1URL: http://www.ti.com/; ComponentLink2Description: Datasheet; ComponentLink2URL: http://www.ti.com/general/docs/lit/getliterature.tsp?genericPartNumber=REG71050&fileType=pdf; ComponentLink3Description: Package Specification; ComponentLink3URL: http://www.ti.com/litv/pdf/mpds216d
footprint TI-DRV6-1600X1000TP_V (SON, 6-Leads, Body 2x2mm, Pitch 0.65mm, Thermal Pad 1X1.6mm)
pins: 1 CPUMP+, 2 VIN (power), 3 CPUMP-, 4 GND (power), 5 ENABLE (in), 6 VOUT (power), 7 EP

## REG71055DDCR
designator U?
5.5 V, Buck / Boost Charge Pump, 60 mA, 3 to 5.5 V Input with 2-Cell Alkaline / Nixx Input, -40 to 85 degC, 6-pin SOT23 (DDC6), Green (RoHS & no Sb/Br); Manufacturer: Texas Instruments; PartNumber: REG71055DDCR; 2-Cell Alkaline/Nixx Input: TRUE; Efficiency(Typ)(%): 90; Iout(Max)(A): 0.06; Iq(Typ)(mA): 0.065; Preset Vout(V): 5.5; Switching Frequency(Max)(kHz): 1000; Vin(Min)(V): 3; Vout(Max)(V): 5.8; Vout(Min)(V): 5.2; DatasheetVersion: SBAS221G; PackageVersion: 4204403-3/E; PackageReference: DDC6; PackageDescription: 6-Pin Plastic Small Outline, Body 2.9 x 1.6 mm, 0.95 mm Pitch; Supplier 1: Digi-Key; Supplier Part Number 1: REG71055DDCR-ND; Supplier 2: Newark; Supplier Part Number 2: 61H5385; Supplier 3: Mouser; Supplier Part Number 3: 595-REG71055DDCR; Eco-Plan: Green (RoHS & no Sb/Br); Topology: Buck/Boost; Vin(Max)(V): 5.5; Mounting Technology: Surface Mount; Code_JEDEC: MO-193; ComponentLink1Description: Manufacturer URL; ComponentLink1URL: http://www.ti.com/; ComponentLink2Description: Datasheet; ComponentLink2URL: http://www.ti.com/general/docs/lit/getliterature.tsp?genericPartNumber=REG71055&fileType=pdf; ComponentLink3Description: Package Specification; ComponentLink3URL: http://www.ti.com/litv/pdf/mpds124d
footprint TI-DDC6_N (SOT23, 6-Leads, Body 2.9x1.6mm, Pitch 0.95mm, IPC Medium Density)
footprint TI-DDC6_L (SOT23, 6-Leads, Body 2.9x1.6mm, Pitch 0.95mm, IPC High Density)
footprint TI-DDC6_M (SOT23, 6-Leads, Body 2.9x1.6mm, Pitch 0.95mm, IPC Low Density)
pins: 1 VOUT (power), 2 GND (power), 3 ENABLE (in), 4 CPUMP-, 5 VIN (power), 6 CPUMP+

## REG71055DDCRG4
designator U?
5.5 V, Buck / Boost Charge Pump, 60 mA, 3 to 5.5 V Input with 2-Cell Alkaline / Nixx Input, -40 to 85 degC, 6-pin SOT23 (DDC6), Green (RoHS & no Sb/Br); Manufacturer: Texas Instruments; PartNumber: REG71055DDCRG4; 2-Cell Alkaline/Nixx Input: TRUE; Efficiency(Typ)(%): 90; Iout(Max)(A): 0.06; Iq(Typ)(mA): 0.065; Preset Vout(V): 5.5; Switching Frequency(Max)(kHz): 1000; Vin(Min)(V): 3; Vout(Max)(V): 5.8; Vout(Min)(V): 5.2; DatasheetVersion: SBAS221G; PackageVersion: 4204403-3/E; PackageReference: DDC6; PackageDescription: 6-Pin Plastic Small Outline, Body 2.9 x 1.6 mm, 0.95 mm Pitch; Supplier 1: Digi-Key; Supplier Part Number 1: REG71055DDCRG4-ND; Supplier 2: Mouser; Supplier Part Number 2: 595-REG71055DDCRG4; Eco-Plan: Green (RoHS & no Sb/Br); Topology: Buck/Boost; Vin(Max)(V): 5.5; Mounting Technology: Surface Mount; Code_JEDEC: MO-193; ComponentLink1Description: Manufacturer URL; ComponentLink1URL: http://www.ti.com/; ComponentLink2Description: Datasheet; ComponentLink2URL: http://www.ti.com/general/docs/lit/getliterature.tsp?genericPartNumber=REG71055&fileType=pdf; ComponentLink3Description: Package Specification; ComponentLink3URL: http://www.ti.com/litv/pdf/mpds124d
footprint TI-DDC6_N (SOT23, 6-Leads, Body 2.9x1.6mm, Pitch 0.95mm, IPC Medium Density)
footprint TI-DDC6_L (SOT23, 6-Leads, Body 2.9x1.6mm, Pitch 0.95mm, IPC High Density)
footprint TI-DDC6_M (SOT23, 6-Leads, Body 2.9x1.6mm, Pitch 0.95mm, IPC Low Density)
pins: 1 VOUT (power), 2 GND (power), 3 ENABLE (in), 4 CPUMP-, 5 VIN (power), 6 CPUMP+

## REG71055DDCT
designator U?
5.5 V, Buck / Boost Charge Pump, 60 mA, 3 to 5.5 V Input with 2-Cell Alkaline / Nixx Input, -40 to 85 degC, 6-pin SOT23 (DDC6), Green (RoHS & no Sb/Br); Manufacturer: Texas Instruments; PartNumber: REG71055DDCT; 2-Cell Alkaline/Nixx Input: TRUE; Efficiency(Typ)(%): 90; Iout(Max)(A): 0.06; Iq(Typ)(mA): 0.065; Preset Vout(V): 5.5; Switching Frequency(Max)(kHz): 1000; Vin(Min)(V): 3; Vout(Max)(V): 5.8; Vout(Min)(V): 5.2; DatasheetVersion: SBAS221G; PackageVersion: 4204403-3/E; PackageReference: DDC6; PackageDescription: 6-Pin Plastic Small Outline, Body 2.9 x 1.6 mm, 0.95 mm Pitch; Supplier 1: Digi-Key; Supplier Part Number 1: 296-15370-2-ND; Supplier 2: Digi-Key; Supplier Part Number 2: 296-15370-1-ND; Supplier 3: Digi-Key; Supplier Part Number 3: 296-15370-6-ND; Supplier 4: Newark; Supplier Part Number 4: 61H5386; Supplier 5: Mouser; Supplier Part Number 5: 595-REG71055DDCT; Eco-Plan: Green (RoHS & no Sb/Br); Topology: Buck/Boost; Vin(Max)(V): 5.5; Mounting Technology: Surface Mount; Code_JEDEC: MO-193; ComponentLink1Description: Manufacturer URL; ComponentLink1URL: http://www.ti.com/; ComponentLink2Description: Datasheet; ComponentLink2URL: http://www.ti.com/general/docs/lit/getliterature.tsp?genericPartNumber=REG71055&fileType=pdf; ComponentLink3Description: Package Specification; ComponentLink3URL: http://www.ti.com/litv/pdf/mpds124d
footprint TI-DDC6_N (SOT23, 6-Leads, Body 2.9x1.6mm, Pitch 0.95mm, IPC Medium Density)
footprint TI-DDC6_L (SOT23, 6-Leads, Body 2.9x1.6mm, Pitch 0.95mm, IPC High Density)
footprint TI-DDC6_M (SOT23, 6-Leads, Body 2.9x1.6mm, Pitch 0.95mm, IPC Low Density)
pins: 1 VOUT (power), 2 GND (power), 3 ENABLE (in), 4 CPUMP-, 5 VIN (power), 6 CPUMP+

## REG71055DDCTG4
designator U?
5.5 V, Buck / Boost Charge Pump, 60 mA, 3 to 5.5 V Input with 2-Cell Alkaline / Nixx Input, -40 to 85 degC, 6-pin SOT23 (DDC6), Green (RoHS & no Sb/Br); Manufacturer: Texas Instruments; PartNumber: REG71055DDCTG4; 2-Cell Alkaline/Nixx Input: TRUE; Efficiency(Typ)(%): 90; Iout(Max)(A): 0.06; Iq(Typ)(mA): 0.065; Preset Vout(V): 5.5; Switching Frequency(Max)(kHz): 1000; Vin(Min)(V): 3; Vout(Max)(V): 5.8; Vout(Min)(V): 5.2; DatasheetVersion: SBAS221G; PackageVersion: 4204403-3/E; PackageReference: DDC6; PackageDescription: 6-Pin Plastic Small Outline, Body 2.9 x 1.6 mm, 0.95 mm Pitch; Supplier 1: Digi-Key; Supplier Part Number 1: REG71055DDCTG4-ND; Supplier 2: Mouser; Supplier Part Number 2: 595-REG71055DDCTG4; Eco-Plan: Green (RoHS & no Sb/Br); Topology: Buck/Boost; Vin(Max)(V): 5.5; Mounting Technology: Surface Mount; Code_JEDEC: MO-193; ComponentLink1Description: Manufacturer URL; ComponentLink1URL: http://www.ti.com/; ComponentLink2Description: Datasheet; ComponentLink2URL: http://www.ti.com/general/docs/lit/getliterature.tsp?genericPartNumber=REG71055&fileType=pdf; ComponentLink3Description: Package Specification; ComponentLink3URL: http://www.ti.com/litv/pdf/mpds124d
footprint TI-DDC6_N (SOT23, 6-Leads, Body 2.9x1.6mm, Pitch 0.95mm, IPC Medium Density)
footprint TI-DDC6_L (SOT23, 6-Leads, Body 2.9x1.6mm, Pitch 0.95mm, IPC High Density)
footprint TI-DDC6_M (SOT23, 6-Leads, Body 2.9x1.6mm, Pitch 0.95mm, IPC Low Density)
pins: 1 VOUT (power), 2 GND (power), 3 ENABLE (in), 4 CPUMP-, 5 VIN (power), 6 CPUMP+

## REG71055IDDCRQ1
designator U?
5.5 V, Buck-Boost Charge Pump Regulator, 60 mA, 3 to 5.5 V Input, -40 to 85 degC, 6-pin SOT23 (DDC6), Green (RoHS & no Sb/Br); Manufacturer: Texas Instruments; PartNumber: REG71055IDDCRQ1; Efficiency(Typ)(%): 90; Iout(Max)(A): 0.06; Iq(Typ)(mA): 0.065; Preset Vout(V): 5.5; Switching Frequency(Max)(kHz): 1000; Topology: Buck/Boost; Vin(Min)(V): 3; Vout(Max)(V): 5.8; Vout(Min)(V): 5.2; DatasheetVersion: SBAS477; PackageVersion: 4204403-3/E; PackageReference: DDC6; PackageDescription: 6-Pin Plastic Small Outline, Body 2.9 x 1.6 mm, 0.95 mm Pitch; Supplier 1: Digi-Key; Supplier Part Number 1: 296-25155-2-ND; Supplier 2: Digi-Key; Supplier Part Number 2: 296-25155-1-ND; Supplier 3: Digi-Key; Supplier Part Number 3: 296-25155-6-ND; Supplier 4: Newark; Supplier Part Number 4: 50R7828; Supplier 5: Mouser; Supplier Part Number 5: 595-REG71055IDDCRQ1; Eco-Plan: Green (RoHS & no Sb/Br); Vin(Max)(V): 5.5; Mounting Technology: Surface Mount; Code_JEDEC: MO-193; ComponentLink1Description: Manufacturer URL; ComponentLink1URL: http://www.ti.com/; ComponentLink2Description: Datasheet; ComponentLink2URL: http://www.ti.com/general/docs/lit/getliterature.tsp?genericPartNumber=REG71055-Q1&fileType=pdf; ComponentLink3Description: Package Specification; ComponentLink3URL: http://www.ti.com/litv/pdf/mpds124d
footprint TI-DDC6_N (SOT23, 6-Leads, Body 2.9x1.6mm, Pitch 0.95mm, IPC Medium Density)
footprint TI-DDC6_L (SOT23, 6-Leads, Body 2.9x1.6mm, Pitch 0.95mm, IPC High Density)
footprint TI-DDC6_M (SOT23, 6-Leads, Body 2.9x1.6mm, Pitch 0.95mm, IPC Low Density)
pins: 1 VOUT (power), 2 GND (power), 3 ENABLE (in), 4 CPUMP-, 5 VIN (power), 6 CPUMP+

## TPS60100PWP
designator U?
3.3 V, Boost Charge Pump, 200 mA, 1.8 to 3.6 V Input, -40 to 85 degC, 20-pin SOP (PWP20), Green (RoHS & no Sb/Br); Manufacturer: Texas Instruments; PartNumber: TPS60100PWP; Efficiency(Typ)(%): 70; Iout(Max)(A): 0.2; Iq(Typ)(mA): 0.05; Preset Vout(V): 3.3; Switching Frequency(Max)(kHz): 400; Vin(Max)(V): 3.6; Vin(Min)(V): 1.8; Vout(Max)(V): 3.47; Vout(Min)(V): 3.17; DatasheetVersion: SLVS213C; PackageVersion: 4073225-4/I; PackageReference: PWP20-2680X1950TP; PackageDescription: 20-Pin Plastic Small Outline, Body 6.5 x 4.4 mm, Pitch 0.65 mm; Supplier 1: Digi-Key; Supplier Part Number 1: 296-2263-5-ND; Supplier 2: Newark; Supplier Part Number 2: 97B4408; Supplier 3: Mouser; Supplier Part Number 3: 595-TPS60100PWP; Eco-Plan: Green (RoHS & no Sb/Br); Topology: Boost; Mounting Technology: Surface Mount; Code_JEDEC: MO-153; ComponentLink1Description: Manufacturer URL; ComponentLink1URL: http://www.ti.com/; ComponentLink2Description: Datasheet; ComponentLink2URL: http://www.ti.com/general/docs/lit/getliterature.tsp?genericPartNumber=TPS60100&fileType=pdf; ComponentLink3Description: Package Specification; ComponentLink3URL: http://www.ti.com/litv/pdf/mhts001g
footprint TI-PWP20-2680X1950TP_N (SOP, 20-Leads, Body 6.4x4.4mm, Pitch 0.65mm, Thermal Pad 1.95x2.675mm, IPC Medium Density)
footprint TI-PWP20-2680X1950TP_L (SOP, 20-Leads, Body 6.4x4.4mm, Pitch 0.65mm, Thermal Pad 1.95x2.675mm, IPC High Density)
footprint TI-PWP20-2680X1950TP_M (SOP, 20-Leads, Body 6.4x4.4mm, Pitch 0.65mm, Thermal Pad 1.95x2.675mm, IPC Low Density)
part A pins: 2 SYNC (in) "Selection for external clock signal. Connect to GND to use the internally generated clock signal. Connect to IN for external synchronization. In this case, the clock signal needs to be fed through 3V8 and the device operates (See Datasheet)", 3 ENABLE (in) "ENABLE Input. The device turns off, the output disconnects from the input, and the supply current decreases to 0.05 uA when ENABLE is a logic low. ENABLE High may only be applied when VIN is inside the recommended operating (See Datasheet)", 4 FB (in) "FEEDBACK input. Connect FB to OUT as close to the load as possible to achieve best regulation. Resistive divider is on chip to match internal reference voltage of 1.22 V.", 5 OUT (power) "Regulated power output. Connect both OUTs through a short trace and bypass OUT to GND with the output filter capacitor CO. VO = 3.3 V when 3V8 = low and VO = 3.8 V when 3V8 = high.", 6 C1+ "Positive terminal of the charge-pump capacitor C1F", 7 IN (power) "Supply Input. Connect to an input supply in the 1.8-V to 3.6-V range. Bypass IN to GND with a (CO/2) uF capacitor. Connect both INs through a short trace.", 8 C1- "Negative terminal of the charge-pump capacitor C1F", 13 C2- "Negative terminal of the charge-pump capacitor C2F", 14 IN (power) "Supply Input. Connect to an input supply in the 1.8-V to 3.6-V range. Bypass IN to GND with a (CO/2) uF capacitor. Connect both INs through a short trace.", 15 C2+ "Positive terminal of the charge-pump capacitor C2F", 16 OUT (power) "Regulated power output. Connect both OUTs through a short trace and bypass OUT to GND with the output filter capacitor CO. VO = 3.3 V when 3V8 = low and VO = 3.8 V when 3V8 = high.", 17 SKIP (in) "Mode selection. When SKIP is logic low, the charge pump operates in constant-frequency mode. Output ripple and noise are minimized in this mode. When SKIP is connect to IN, the device operates in pulse skip mode. Quiescent (See Datasheet)", 18 COM (in) "Mode selection. When COM is logic low the charge pump operates in push-pull mode to minimize output ripple. When COM is connected to IN the regulator operates in single-ended mode requiring only one flying capacitor.", 19 3V8 (in) "Mode selection. When 3V8 is logic low the charge pump operates in the regulated 3.3-V mode. When 3V8 is connected to IN the regulator operates in preregulated 3.8-V mode."
part B pins: 1 GND (power) "GROUND. Analog ground for internal reference and control circuitry. Connect to PGND through a short trace.", 9 PGND (power) "PGND power ground. Charge-pump current flows through this pin. Connect all PGNDs together.", 10 PGND (power) "PGND power ground. Charge-pump current flows through this pin. Connect all PGNDs together.", 11 PGND (power) "PGND power ground. Charge-pump current flows through this pin. Connect all PGNDs together.", 12 PGND (power) "PGND power ground. Charge-pump current flows through this pin. Connect all PGNDs together.", 20 GND (power) "GROUND. Analog ground for internal reference and control circuitry. Connect to PGND through a short trace.", 21 EP "Exposed thermal pad."